# EAGLE library part DTF13-12PA (library DEUTSCH-PCB)
DTF13-12PA Connector System : Draht-an-Leiterplatte, Kabel-an-Gerät Alias NummerZPF000000000130557 Home-Page <http://www.te.com/deu-de/product-DTF13-12PA.html>
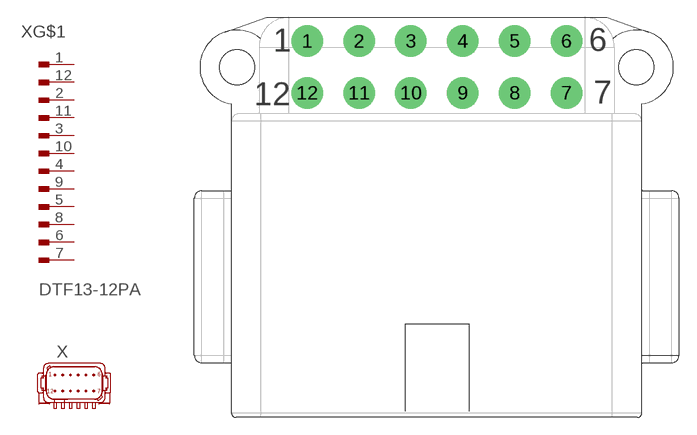
[diagram p0: symbol with the pads of DTF13-12PA; footprint DTF13-12PA]

Designator prefix X; gates G$1=DTF15-12PA MECHSYMBOL=DTF13-12PD_FRONT

## DTF13-12PA (ARTIKEL_NR: 522012)  [DTF13-12PA]
1  G$1:1  pas
2  G$1:2  pas
3  G$1:3  pas
4  G$1:4  pas
5  G$1:5  pas
6  G$1:6  pas
7  G$1:7  pas
8  G$1:8  pas
9  G$1:9  pas
10  G$1:10  pas
11  G$1:11  pas
12  G$1:12  pas

## Footprint DTF13-12PA (pad centres in mm)
drill 1.8 pad 2.4: 1 -11.125,2.223; 2 -6.675,2.223; 3 -2.225,2.223; 4 2.225,2.223; 5 6.675,2.223; 6 11.125,2.223; 7 11.125,-2.223; 8 6.675,-2.223; 9 2.225,-2.223; 10 -2.225,-2.223; 11 -6.675,-2.223; 12 -11.125,-2.223
hole 3 at -17.157,0
hole 3 at 17.133,0